# Altium footprint library Footprint_Transistor.PcbLib: 8 footprints
Each footprint in its own frame and in the unit in brackets; x right, y up, seen from the top. Pads: shape width x height; smd on the part's side, far side on the other; paste and mask are expansions set on the pad; w line width, h text height; cw(c..) or ccw(c..) is an arc to the next point about the centre after c.
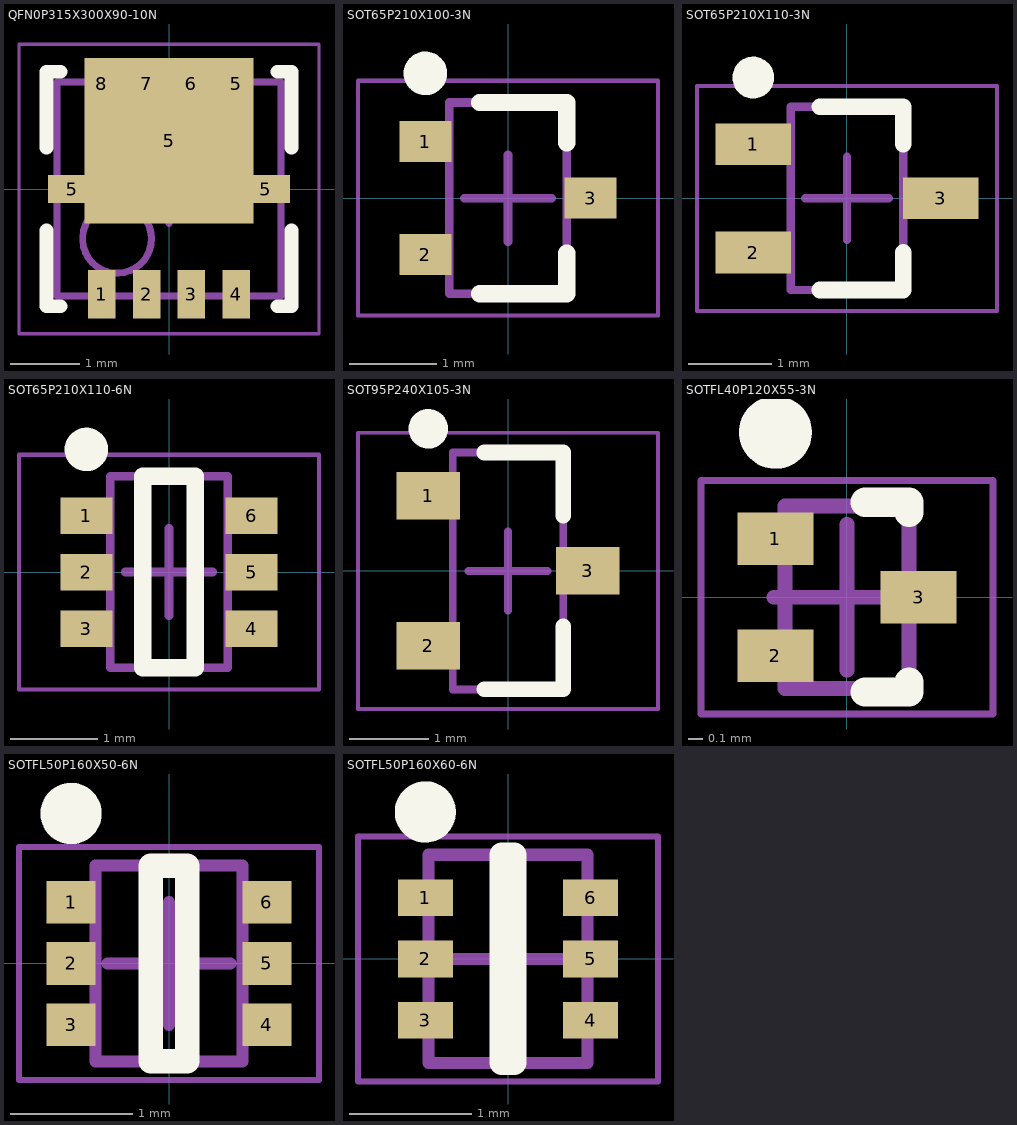
[diagram p0: the footprints below, top view; thin cyan lines are the x and y axes]

## QFN0P315X300X90-10N [mm] "QFN, 10-Leads, Body 3.15x3.00mm, Pitch 0.65mm/0.00mm, IPC Medium Density"
height 0.9
pads (11):
  rect 0.4x0.7 smd: 1(-0.975,-1.525) 2(-0.325,-1.525) 3(0.325,-1.525) 4(0.975,-1.525) 5(0.975,1.525) 6(0.325,1.525) 7(-0.325,1.525) 8(-0.975,1.525)
  rect 0.7x0.4 smd: 5(-1.405,0) 5(1.405,0)
  rect 2.45x2.4 smd: 5(0,0.7)
Top Overlay:
  lines w0.2: -1.775,-0.6 -1.775,-1.7 -1.575,-1.7 ; -1.775,0.6 -1.775,1.7 -1.575,1.7 ; 1.575,-1.7 1.775,-1.7 1.775,-0.6 ; 1.575,1.7 1.775,1.7 1.775,0.6
Top Assembly:
  circle w0.1: c-0.753,-0.721 r0.5
  lines w0.1: -1.625,-1.55 -1.625,1.55 1.625,1.55 1.625,-1.55 -1.625,-1.55
  text ".Designator" at -7.747,-1.27 h0.76
Top Courtyard:
  lines w0.05: -2.175,-2.1 -2.175,2.1 2.175,2.1 2.175,-2.1 -2.175,-2.1
  lines w0.1: -0.5,0 0.5,0 ; 0,-0.5 0,0.5
3D body "User Library-PowerFlat.STEP": height 0.8, standoff 0, extent -1.65,-1.65 1.65,1.65

## SOT65P210X100-3N [mm] "SOT23, 3-Leads, Body 2.00x2.10mm, Pitch 0.65mm, IPC Medium Density"
height 1
pads (3):
  rect 0.6x0.47 smd: 1(-0.95,0.65) 2(-0.95,-0.65) 3(0.95,0)
Top Overlay:
  circle w0.25: c-0.95,1.435 r0.125
  lines w0.2: -0.325,-1.1 0.675,-1.1 0.675,-0.635 ; -0.325,1.1 0.675,1.1 0.675,0.635
Top Assembly:
  lines w0.1: -0.675,-1.1 0.675,-1.1 0.675,1.1 -0.675,1.1 -0.675,-1.1
  text ".Designator" at 1.27,-7.747 h0.3
Top Courtyard:
  lines w0.05: -1.725,-1.35 1.725,-1.35 1.725,1.35 -1.725,1.35 -1.725,-1.35
  lines w0.1: -0.5,0 0.5,0 ; 0,-0.5 0,0.5
3D body "SOT65P210X100-3N.step": height 1, standoff 0, extent -1.1,-1.1 1.1,1.1

## SOT65P210X110-3N [mm] "SOT23, 3-Leads, Body 2.00x2.10mm, Pitch 0.65mm, IPC Medium Density"
height 1.1
pads (3):
  rect 0.9x0.5 smd: 1(-1.125,0.65) 2(-1.125,-0.65) 3(1.125,0)
Top Overlay:
  circle w0.25: c-1.125,1.45 r0.125
  lines w0.2: -0.325,-1.1 0.675,-1.1 0.675,-0.65 ; -0.325,1.1 0.675,1.1 0.675,0.65
Top Assembly:
  lines w0.1: -0.675,-1.1 -0.675,1.1 0.675,1.1 0.675,-1.1 -0.675,-1.1
  text ".Designator" at 1.27,-7.747 h0.3
Top Courtyard:
  lines w0.05: -1.8,-1.35 -1.8,1.35 1.8,1.35 1.8,-1.35 -1.8,-1.35
  lines w0.1: -0.5,0 0.5,0 ; 0,-0.5 0,0.5
3D body "SOT65P210X110-3N.step": height 1.1, standoff 0, extent -1.3,-1.1 1.3,1.1

## SOT65P210X110-6N [mm] "SOT23, 6-Leads, Body 2.00x2.10mm, Pitch 0.65mm, IPC Medium Density"
height 1.1
pads (6):
  rect 0.6x0.42 smd: 1(-0.95,0.65) 2(-0.95,0) 3(-0.95,-0.65) 4(0.95,-0.65) 5(0.95,0) 6(0.95,0.65)
Top Overlay:
  circle w0.25: c-0.95,1.41 r0.125
  lines w0.2: -0.3,-1.1 -0.3,1.1 0.3,1.1 0.3,-1.1 -0.3,-1.1
Top Assembly:
  lines w0.1: -0.675,-1.1 0.675,-1.1 0.675,1.1 -0.675,1.1 -0.675,-1.1
  text ".Designator" at 1.27,-7.747 h0.3
Top Courtyard:
  lines w0.05: -1.725,-1.35 1.725,-1.35 1.725,1.35 -1.725,1.35 -1.725,-1.35
  lines w0.1: -0.5,0 0.5,0 ; 0,-0.5 0,0.5
3D body "SOT65P210X110-6N.step": height 1.1, standoff 0, extent -1.1,-1.1 1.1,1.1

## SOT95P240X105-3N [mm] "SOT23, 3-Leads, Body 2.90x2.40mm, Pitch 0.95mm, IPC Medium Density"
height 1.05
pads (3):
  rect 0.8x0.6 smd: 1(-1.01,0.95) 2(-1.01,-0.95) 3(1.01,0)
Top Overlay:
  circle w0.25: c-1.01,1.8 r0.125
  lines w0.2: -0.3,-1.5 0.7,-1.5 0.7,-0.7 ; -0.3,1.5 0.7,1.5 0.7,0.7
Top Assembly:
  lines w0.1: -0.7,-1.5 -0.7,1.5 0.7,1.5 0.7,-1.5 -0.7,-1.5
  text ".Designator" at 1.27,-7.747 h0.3
Top Courtyard:
  lines w0.05: -1.9,-1.75 -1.9,1.75 1.9,1.75 1.9,-1.75 -1.9,-1.75
  lines w0.1: -0.5,0 0.5,0 ; 0,-0.5 0,0.5
3D body "SOT95P240X105-3N.step": height 1.05, standoff 0, extent -1.275,-1.5 1.275,1.5

## SOTFL40P120X55-3N [mm] "SOTFL, 3-Leads, Body 1.20x1.20mm, Pitch 0.40mm, IPC Medium Density"
height 0.55
pads (3):
  rect 0.52x0.36 smd: 1(-0.49,0.4) 2(-0.49,-0.4) 3(0.49,0)
Top Overlay:
  circle w0.25: c-0.49,1.13 r0.125
  lines w0.2: 0.125,-0.65 0.425,-0.65 0.425,-0.58 ; 0.125,0.65 0.425,0.65 0.425,0.58
Top Assembly:
  lines w0.1: -0.425,-0.625 -0.425,0.625 0.425,0.625 0.425,-0.625 -0.425,-0.625
  text ".Designator" at 1.27,-7.747 h0.3
Top Courtyard:
  lines w0.05: -1,-0.8 -1,0.8 1,0.8 1,-0.8 -1,-0.8
  lines w0.1: -0.5,0 0.5,0 ; 0,-0.5 0,0.5
3D body "SOTFL40P120X55-3N.step": height 0.55, standoff 0, extent -0.6,-0.623 0.6,0.623

## SOTFL50P160X50-6N [mm] "SOTFL, 6-Leads, Body 1.60x1.60mm, Pitch 0.50mm, IPC Medium Density"
height 0.5
pads (6):
  rect 0.4x0.35 smd: 1(-0.8,0.5) 2(-0.8,0) 3(-0.8,-0.5) 4(0.8,-0.5) 5(0.8,0) 6(0.8,0.5)
Top Overlay:
  circle w0.25: c-0.8,1.225 r0.125
  lines w0.2: -0.15,-0.8 0.15,-0.8 0.15,0.8 -0.15,0.8 -0.15,-0.8
Top Assembly:
  lines w0.1: -0.6,-0.8 -0.6,0.8 0.6,0.8 0.6,-0.8 -0.6,-0.8
  text ".Designator" at 1.27,-7.747 h0.3
Top Courtyard:
  lines w0.05: -1.225,-0.95 -1.225,0.95 1.225,0.95 1.225,-0.95 -1.225,-0.95
  lines w0.1: -0.5,0 0.5,0 ; 0,-0.5 0,0.5
3D body "SOTFL50P160X50-6N.step": height 0.5, standoff 0, extent -0.8,-0.798 0.8,0.798

## SOTFL50P160X60-6N [mm] "SOTFL, 6-Leads, Body 1.60x1.60mm, Pitch 0.50mm, IPC Medium Density"
height 0.6
pads (6):
  rect 0.45x0.3 smd: 1(-0.675,0.5) 2(-0.675,0) 3(-0.675,-0.5) 4(0.675,-0.5) 5(0.675,0) 6(0.675,0.5)
Top Overlay:
  circle w0.25: c-0.675,1.2 r0.125
  lines w0.2: -0.05,-0.85 0.05,-0.85 0.05,0.85 -0.05,0.85 -0.05,-0.85
Top Assembly:
  lines w0.1: -0.65,-0.85 -0.65,0.85 0.65,0.85 0.65,-0.85 -0.65,-0.85
  text ".Designator" at 1.27,-7.747 h0.3
Top Courtyard:
  lines w0.05: -1.225,-1 -1.225,1 1.225,1 1.225,-1 -1.225,-1
  lines w0.1: -0.5,0 0.5,0 ; 0,-0.5 0,0.5
3D body "SOTFL50P160X60-6N.step": height 0.6, standoff 0, extent -0.8,-0.848 0.8,0.848